# Altium footprint library ARM_Libary_EURO.PcbLib: 112 footprints (part 4 of 7)
Each footprint in its own frame and in the unit in brackets; x right, y up, seen from the top. Pads: shape width x height; smd on the part's side, far side on the other; paste and mask are expansions set on the pad; w line width, h text height; cw(c..) or ccw(c..) is an arc to the next point about the centre after c.
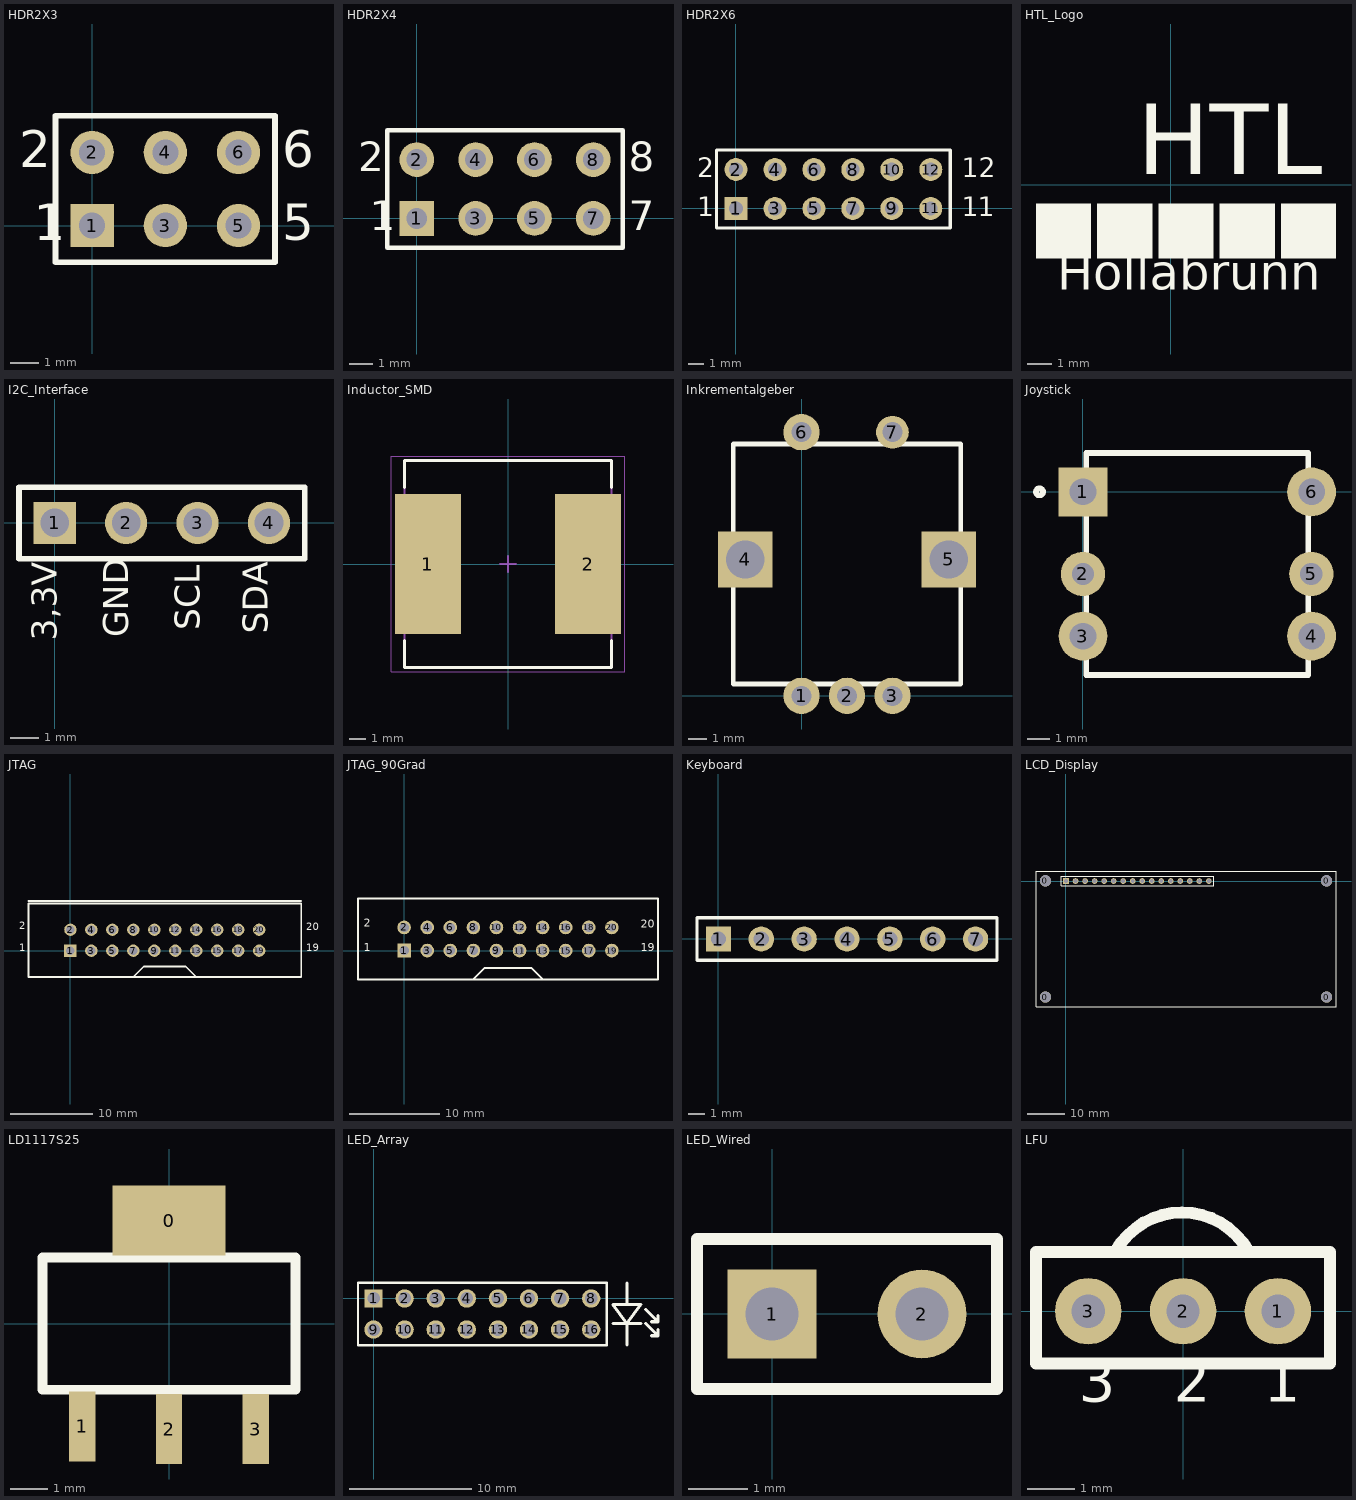
[diagram p3: the footprints below, top view; thin cyan lines are the x and y axes]

## HDR2X3 [mm] "Connector; Header; 3x2 Position"
height 2.54
pads (6):
  rect 1.5x1.5 hole 0.9: 1(0,0)
  round 1.5 hole 0.9: 2(0,2.54) 3(2.54,0) 4(2.54,2.54) 5(5.08,0) 6(5.08,2.54)
Top Overlay:
  lines w0.2: 1.482,-1.27 6.35,-1.27 ; 6.35,-1.27 -1.27,-1.27 -1.27,3.81 6.35,3.81 6.35,-1.27
  text "1" at -2.032,-0.508 h1.27
  text "2" at -2.54,2.032 h1.27
  text "5" at 6.604,-0.508 h1.27
  text "6" at 6.604,2.032 h1.27

## HDR2X4 [mm] "Connector; Header; 4x2 Position"
pads (8):
  rect 1.5x1.5 hole 0.9: 1(0,0)
  round 1.5 hole 0.9: 2(0,2.54) 3(2.54,0) 4(2.54,2.54) 5(5.08,0) 6(5.08,2.54) 7(7.62,0) 8(7.62,2.54)
Top Overlay:
  lines w0.2: -1.27,-1.27 -1.27,3.81 8.89,3.81 8.89,-1.27 -1.27,-1.27
  text "8" at 9.144,2.032 h1.27
  text "7" at 9.144,-0.508 h1.27
  text "1" at -2.032,-0.508 h1.27
  text "2" at -2.54,2.032 h1.27

## HDR2X6 [mm] "Connector; Header; 6x2 Position"
pads (12):
  rect 1.5x1.5 hole 0.9: 1(0,0)
  round 1.5 hole 0.9: 2(0,2.54) 3(2.54,0) 4(2.54,2.54) 5(5.08,0) 6(5.08,2.54) 7(7.62,0) 8(7.62,2.54) 9(10.16,0) 10(10.16,2.54) 11(12.7,0) 12(12.7,2.54)
Top Overlay:
  lines w0.2: -1.27,-1.27 -1.27,3.81 13.97,3.81 13.97,-1.27 -1.27,-1.27
  text "2" at -2.54,2.032 h1.27
  text "1" at -2.54,-0.508 h1.27
  text "1" at 14.732,-0.508 h1.27
  text "1" at 15.748,-0.508 h1.27
  text "12" at 14.732,2.032 h1.27

## HTL_Logo [mm]
Top Overlay:
  rectangle: -5.588,-3.048 -3.302,-0.762
  rectangle: -3.048,-3.048 -0.762,-0.762
  rectangle: -0.508,-3.048 1.778,-0.762
  rectangle: 2.032,-3.048 4.318,-0.762
  rectangle: 4.572,-3.048 6.858,-0.762
  text "Hollabrunn" at -4.699,-4.826 h2.5
  text "HTL" at -1.397,-0.508 h5

## I2C_Interface [mm]
pads (4):
  rect 1.5x1.5 hole 1.016: 1(0,0)
  round 1.5 hole 1.016: 2(2.54,0) 3(5.08,0) 4(7.62,0)
Top Overlay:
  lines w0.2: -1.27,-1.27 0.635,-1.27 8.89,-1.27 8.89,1.27 -1.27,1.27 -1.27,-1.27
  text "SDA" at 7.874,-3.937 h1.52
  text "SCL" at 5.461,-3.81 h1.52
  text "GND" at 2.921,-4.064 h1.52
  text "3,3V" at 0.381,-4.191 h1.52

## Inductor_SMD [mm] "Precision Wire Wound Inductor, 2-Leads, Body 12,50x12,50mm, IPC Medium Density"
height 8
pads (2):
  rect 4.1x8.65 smd: 1(-4.95,0) 2(4.95,0)
Top Overlay:
  lines w0.2: -6.4,-4.725 -6.4,-6.4 6.4,-6.4 6.4,-4.725 ; -6.4,4.725 -6.4,6.4 6.4,6.4 6.4,4.725
Mechanical 13:
  lines w0.1: -6.4,-6.4 -6.4,6.4 6.4,6.4 6.4,-6.4 -6.4,-6.4
Mechanical 15:
  lines w0.05: -7.225,-6.65 -7.225,6.65 7.225,6.65 7.225,-6.65 -7.225,-6.65
  lines w0.1: -0.5,0 0.5,0 ; 0,-0.5 0,0.5
3D body: height 8, standoff 0, extent -6.4,-6.4 6.4,6.4

## Inkrementalgeber [mm]
pads (7):
  round 2 hole 1.1: 1(0,0) 2(2.5,0) 3(5,0) 6(0,14.5)
  rect 3x3.1 hole 2.1 square: 4(-3.1,7.5) 5(8.1,7.5)
  round 1.8 hole 1.1: 7(5,14.5)
Top Overlay:
  lines w0.254: -3.75,0.65 8.75,0.65 8.75,13.85 -3.75,13.85 -3.75,0.65

## Joystick [mm]
pads (6):
  rect 2.2x2.2 hole 1.2: 1(0,0)
  round 2 hole 1: 2(0,-3.7) 5(10.287,-3.7)
  round 2.2 hole 1.2: 3(0,-6.5) 4(10.3,-6.5) 6(10.3,0)
Top Overlay:
  circle w0.254: c-1.958,0 r0.158
  lines w0.254: 0.15,-8.25 0.15,1.75 5.15,1.75 10.15,1.75 10.15,-8.25 0.15,-8.25

## JTAG [mm] "JTAG Interface"
pads (20):
  rect 1.5x1.5 hole 1.016: 1(0,0)
  round 1.5 hole 1.016: 2(0,2.54) 3(2.54,0) 4(2.54,2.54) 5(5.08,0) 6(5.08,2.54) 7(7.62,0) 8(7.62,2.54) 9(10.16,0) 10(10.16,2.54) 11(12.7,0) 12(12.7,2.54) 13(15.24,0) 14(15.24,2.54) 15(17.78,0) 16(17.78,2.54) 17(20.32,0) 18(20.32,2.54)
  round 1.5 hole 0.9: 19(22.86,0) 20(22.86,2.54)
Top Overlay:
  lines w0.2: -5.08,6.015 27.94,6.015 ; 7.62,-3.175 8.89,-1.905 13.97,-1.905 15.24,-3.175 ; -5.08,-3.175 -5.08,5.715 27.94,5.715 27.94,-3.175 -5.08,-3.175
  text "1" at -6.223,-0.381 h1.52
  text "2" at -6.223,2.286 h1.52
  text "19" at 28.575,-0.381 h1.52
  text "20" at 28.575,2.159 h1.52

## JTAG_90Grad [mm] "JTAG Interface"
pads (20):
  rect 1.5x1.5 hole 1.016: 1(0,0)
  round 1.5 hole 1.016: 2(0,2.54) 3(2.54,0) 4(2.54,2.54) 5(5.08,0) 6(5.08,2.54) 7(7.62,0) 8(7.62,2.54) 9(10.16,0) 10(10.16,2.54) 11(12.7,0) 12(12.7,2.54) 13(15.24,0) 14(15.24,2.54) 15(17.78,0) 16(17.78,2.54) 17(20.32,0) 18(20.32,2.54)
  round 1.5 hole 0.9: 19(22.86,0) 20(22.86,2.54)
Top Overlay:
  lines w0.2: 7.62,-3.175 8.89,-1.905 13.97,-1.905 15.24,-3.175 ; -5.08,-3.175 -5.08,5.715 27.94,5.715 27.94,-3.175 -5.08,-3.175
  text "1" at -4.445,-0.381 h1.52
  text "2" at -4.445,2.286 h1.52
  text "19" at 26.035,-0.381 h1.52
  text "20" at 26.035,2.159 h1.52

## Keyboard [mm] "Connector; Header; 7 Position"
height 2.54
pads (7):
  rect 1.5x1.5 hole 0.9: 1(0,0)
  round 1.5 hole 0.9: 2(2.54,0) 3(5.08,0) 4(7.62,0) 5(10.16,0) 6(12.7,0) 7(15.24,0)
Top Overlay:
  lines w0.2: -1.27,-1.27 16.51,-1.27 16.51,1.27 -1.27,1.27 -1.27,-1.27

## LCD_Display [mm]
pads (20):
  round 3 hole 3: 0(-5.5,-30.96) 0(-5.5,0.04) 0(69.5,-30.96) 0(69.5,0.04)
  rect 1.5x1.5 hole 1.016: 1(0,0)
  round 1.5 hole 1.016: 2(2.54,0) 3(5.08,0) 4(7.62,0) 5(10.16,0) 6(12.7,0) 7(15.24,0) 8(17.78,0) 9(20.32,0) 10(22.86,0) 11(25.4,0) 12(27.94,0) 13(30.48,0) 14(33.02,0) 15(35.56,0) 16(38.1,0)
Top Overlay:
  lines w0.2: -8,-33.46 72,-33.46 72,2.54 -8,2.54 -8,-33.46 ; -1.27,-1.27 -1.27,1.27 39.37,1.27 39.37,-1.27 -1.27,-1.27

## LD1117S25 [mm]
height 1.8
pads (4):
  rect 3x1.85 smd: 0(0,2.725)
  rect 0.7x1.85 smd: 1(-2.3,-2.725) 2(0,-2.794) 3(2.3,-2.794)
Top Overlay:
  lines w0.254: -3.35,-1.75 -3.35,1.75 3.35,1.75 3.35,-1.75 -3.35,-1.75

## LED_Array [mm] "8fach-LED Array"
pads (16):
  rect 1.5x1.5 hole 1.016: 1(0,0)
  round 1.5 hole 1.016: 2(2.54,0) 3(5.08,0) 4(7.62,0) 5(10.16,0) 6(12.7,0) 7(15.24,0) 8(17.78,0) 9(0,-2.54) 10(2.54,-2.54) 11(5.08,-2.54) 12(7.62,-2.54) 13(10.16,-2.54) 14(12.7,-2.54) 15(15.24,-2.54) 16(17.78,-2.54)
Top Overlay:
  lines w0.2: -1.27,-3.81 -1.27,1.27 0.635,1.27 19.05,1.27 19.05,-3.81 0.635,-3.81 -1.27,-3.81
  lines w0.254: 19.558,-2.032 20.701,-2.032 ; 20.701,-3.81 20.701,-2.032 ; 20.701,1.27 20.701,-0.508 ; 21.844,-2.032 20.701,-2.032 ; 22.225,-2.032 23.241,-3.048 ; 22.225,-0.889 23.241,-1.905 ; 22.733,-3.048 23.241,-3.048 ; 22.733,-1.905 23.241,-1.905 ; 23.241,-2.54 23.241,-3.048 ; 23.241,-1.397 23.241,-1.905 ; 20.701,-2.032 19.558,-0.508 20.701,-0.508 ; 20.701,-2.032 21.844,-0.508 20.701,-0.508

## LED_Wired [mm] "Connector; Header; 2 Position"
height 2.54
pads (2):
  rect 1.5x1.5 hole 0.9: 1(0,0)
  round 1.5 hole 0.9: 2(2.54,0)
Top Overlay:
  lines w0.2: -1.27,-1.27 3.81,-1.27 3.81,1.27 -1.27,1.27 -1.27,-1.27

## LFU [mm]
pads (3):
  round 1.4 hole 0.7: 1(2,0) 2(0,0) 3(-2,0)
Top Overlay:
  lines w0.254: -1.419,1.272 cw(c-0.021,0.471) 1.375,1.275 ; -3.1,-1.1 -3.1,1.25 -2.225,1.25 -1.15,1.25 1.15,1.25 3.1,1.25 3.1,-1.1 -3.1,-1.1
  text "1" at 1.7,-2.2 h1.52
  text "2" at -0.2,-2.2 h1.52
  text "3" at -2.2,-2.2 h1.52